# EAGLE library part S12B-PHDSS (library con-jst-phd)
JST PHD series header 2.00mm pitch disconnectable crimp style connectors, horizontal (side entry type), 12 pins
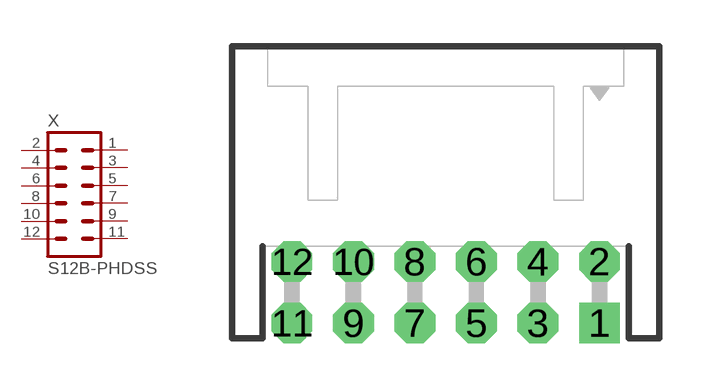
[diagram p16: symbol with the pads of S12B-PHDSS; footprint S12B-PHDSS]

Designator prefix X

## S12B-PHDSS  [S12B-PHDSS]
1  1  pas
2  2  pas
3  3  pas
4  4  pas
5  5  pas
6  6  pas
7  7  pas
8  8  pas
9  9  pas
10  10  pas
11  11  pas
12  12  pas

## S12B-PHDSS-B  [S12B-PHDSS]
Pads as for S12B-PHDSS

## Footprint S12B-PHDSS (pad centres in mm)
JST PHD series header 2.00mm pitch disconnectable crimp style connectors, through-hole horizontal (top entry type), 12 pins
drill 0.7 pad 1.321 square: 1 5,-1
drill 0.7 pad 1.321 octagon: 2 5,1; 3 3,-1; 4 3,1; 5 1,-1; 6 1,1; 7 -1,-1; 8 -1,1; 9 -3,-1; 10 -3,1; 11 -5,-1; 12 -5,1